# EAGLE library part SPI_LCD_DISPLAY (library ENGI301-Project2)
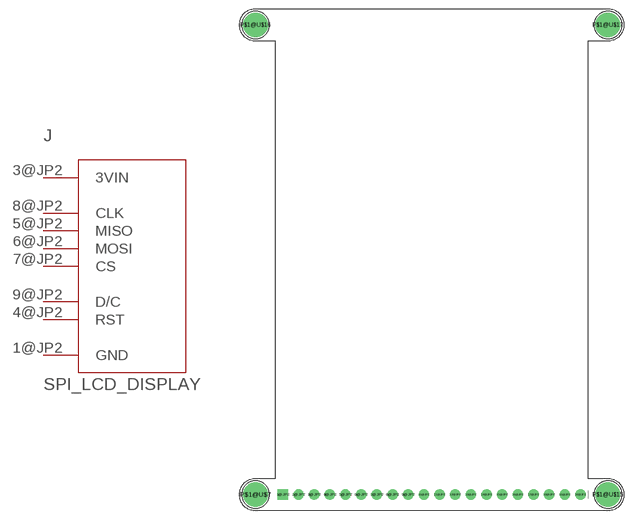
[diagram p1: symbol with the pads of SPI_LCD_DISPLAY; footprint SPI_LCD_DISPLAY]

Designator prefix J

## SPI_LCD_DISPLAY  [SPI_LCD_DISPLAY]
1@JP2  GND
3@JP2  3VIN
4@JP2  RST
5@JP2  MISO
6@JP2  MOSI
7@JP2  CS
8@JP2  CLK
9@JP2  D/C

## Footprint SPI_LCD_DISPLAY (pad centres in mm)
Package generated by make-group2pac.ulp from: C:/Users/12546/AppData/Local/Temp/Temp2_2.8-TFT-Breakout-PCB-master (1).zip/2.8-TFT-Breakout-PCB-master/Adafruit 2.8 TFT Breakout v2.brd at: 12/12/2022 9:43 PM
drill 1 pad 1.676 square: 1@JP2 -24.13,-38.1
drill 1 pad 1.676: 2@JP2 -21.59,-38.1; 3@JP2 -19.05,-38.1; 4@JP2 -16.51,-38.1; 5@JP2 -13.97,-38.1; 6@JP2 -11.43,-38.1; 7@JP2 -8.89,-38.1; 8@JP2 -6.35,-38.1; 9@JP2 -3.81,-38.1; 10@JP2 -1.27,-38.1; 11@JP2 1.27,-38.1; 12@JP2 3.81,-38.1; 13@JP2 6.35,-38.1; 14@JP2 8.89,-38.1; 15@JP2 11.43,-38.1; 16@JP2 13.97,-38.1; 17@JP2 16.51,-38.1; 18@JP2 19.05,-38.1; 19@JP2 21.59,-38.1; 20@JP2 24.13,-38.1
drill 3 pad 3.6: P$1@U$7 -28.575,-38.1; P$1@U$15 28.575,-38.1; P$1@U$16 -28.575,38.1; P$1@U$17 28.575,38.1